# Altium schematic symbol library IoWLabs.SchLib: 46 symbols
Pins are listed as number, name and electrical type; pins without a type are passive.

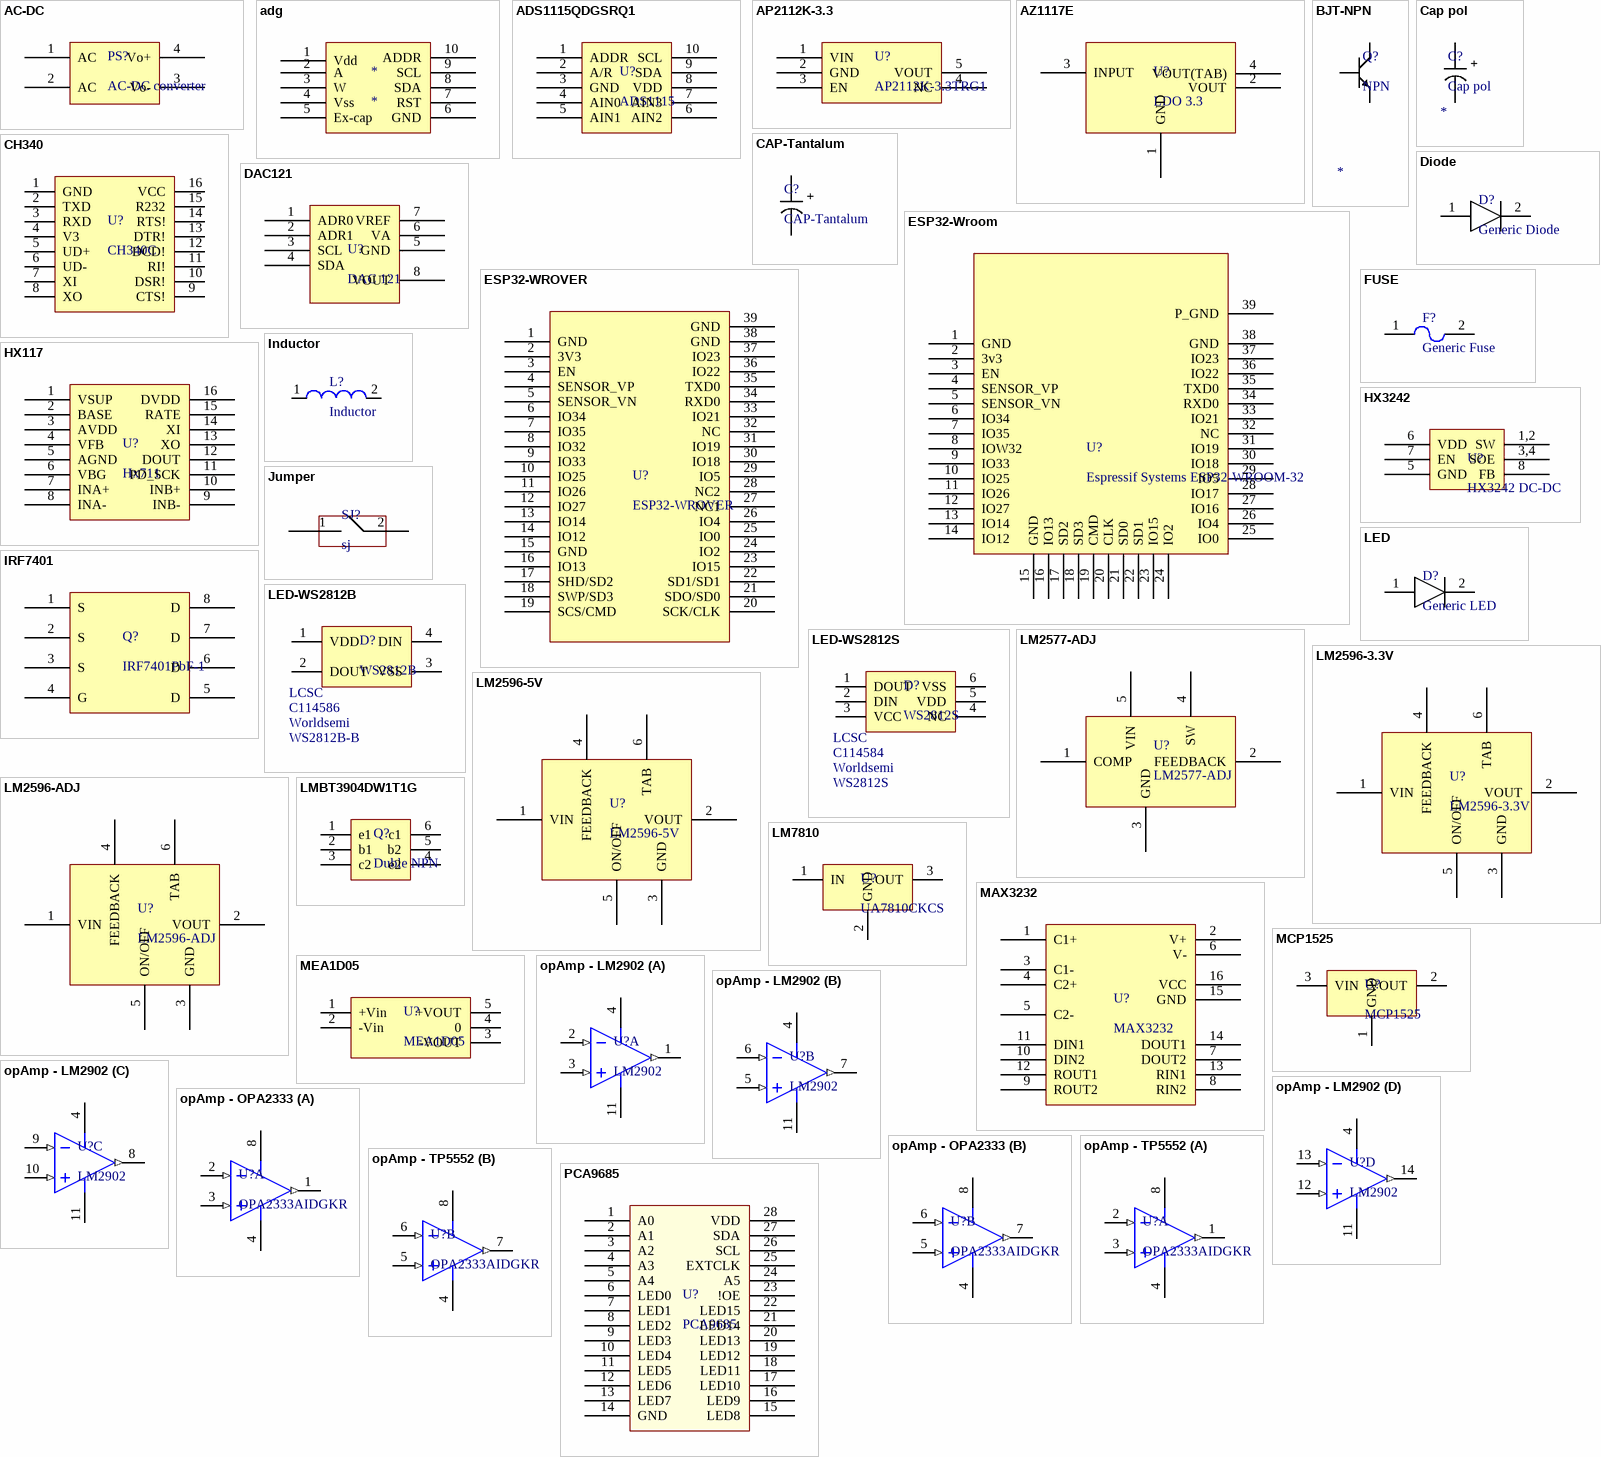
[diagram p0: symbols AC-DC to PCA9685]

## AC-DC
designator PS?, comment AC-DC converter
Generic AC-DC converter; Manufacturer: HI-LINK; Supplier 1: LCSC; Model: *; Current: *; V in: *; Power: *
footprint TH-ACDC (hi link ac dc module)
pins: 1 AC, 2 AC, 3 Vo-, 4 Vo+

## adg
designator *
footprint 10MSOP
pins: 1 Vdd, 2 A, 3 W, 4 Vss, 5 Ex-cap, 6 GND, 7 RST, 8 SDA, 9 SCL, 10 ADDR

## ADS1115QDGSRQ1
designator U?, comment ADS1115
Analog To Digital Converters (ADCs) VSSOP-10 RoHS; Manufacturer Part Number: ADS1115QDGSRQ1; Manufacturer: Texas Instruments; Supplier 1: LCSC; Supplier Part Number 1: C172375; Package: VSSOP-10
footprint VSSOP - 10 (DGSM-10)
pins: 1 ADDR, 2 A/R, 3 GND, 4 AIN0, 5 AIN1, 6 AIN2, 7 AIN3, 8 VDD, 9 SDA, 10 SCL

## AP2112K-3.3
designator U?, comment AP2112K-3.3TRG1
600mA CMOS LDO REGULATOR WITH ENABLE; Manufacture: DIODES; Package: SOT-25-5_L3.0-W1.8-P0.95-LS3.0-BL; Supplier 1: LCSC; Supplier Part Number 1: C51118; Manufacture Part Number: AP2112K-3.3TRG1
footprint SOT25-5
pins: 1 VIN, 2 GND, 3 EN, 4 NC, 5 VOUT

## AZ1117E
designator U?, comment LDO 3.3
Low Dropout Regulators(LDO) Positive Fixed 1.3V @ 1A 13V 3.3V 1A SOT-223 RoHS; Manufacturer: Diodes Incorporated; Manufacturer Part Number: AZ1117EH-3.3TRG1; Supplier 1: LCSC; Supplier Part Number 1: C108494
footprint SOT223
pins: 1 GND, 2 VOUT, 3 INPUT, 4 VOUT(TAB)

## BJT-NPN
designator Q?, comment NPN
Generic bjt npn; Supplier 1: LCSC; Manufacturer Part Number: *; Model: *
footprint SOT-23
pins: 1 b, 2 e, 3 c

## Cap pol
designator C?
Electrolytic Aluminium Capacitor; Manufacturer: *; Manufacturer Part Number: *; Supplier 1: LCSC; Supplier Part Number 1: *; Voltage: *; Package: *; Value: *
footprint CAP _TH_Electrolytic
footprint CAP_SMD_Electrolytic_10x10
footprint CAP_SMD_Electrolytic_13.5x13.5
footprint CAP_SMD_Electrolytic_5X5.4
pins: 1, 2
text: +

## CAP-Tantalum
designator C?
Tantalum Capacitors; Value: 1 uF; Voltage: 16V; Supplier 1: LCSC; Package: *
footprint CAP_SMD_CLAS_A (Tantalum Capacitor 1206)
pins: 1, 2
text: +

## CH340
designator U?, comment CH340C
USB to serial chip CH340 16 version; Manufacturer Part Number: CH340C; Supplier 1: LCSC; Supplier Part Number 1: C84681; Package: SOP-16_L10.0-W3.9-P1.27-LS6.0-BL
footprint SOP-16
pins: 1 GND, 2 TXD, 3 RXD, 4 V3, 5 UD+, 6 UD-, 7 XI, 8 XO, 9 CTS!, 10 DSR!, 11 RI!, 12 DCD!, 13 DTR!, 14 RTS!, 15 R232, 16 VCC

## DAC121
designator U?, comment DAC 121
DAC 12bit
pins: 1 ADR0, 2 ADR1, 3 SCL, 4 SDA, 5 GND, 6 VA, 7 VREF, 8 VOUT

## Diode
designator D?, comment Generic Diode
Generic diode component; Model: *; Supplier 1: LCSC; Supplier Part Number 1: *
footprint SOD-123
pins: 1, 2

## ESP32-Wroom
designator U?, comment Espressif Systems ESP32-WROOM-32
WIFI Modules RoHS; Manufacturer Part Number: ESP32-WROOM-32UC; Supplier 1: LCSC; Supplier Part Number 1: C473014; Manufacturer: Espressif Systems
footprint ESP-WROOM32
pins: 1 GND, 2 3v3, 3 EN, 4 SENSOR_VP, 5 SENSOR_VN, 6 IO34, 7 IO35, 8 IOW32, 9 IO33, 10 IO25, 11 IO26, 12 IO27, 13 IO14, 14 IO12, 15 GND, 16 IO13, 17 SD2, 18 SD3, 19 CMD, 20 CLK, 21 SD0, 22 SD1, 23 IO15, 24 IO2, 25 IO0, 26 IO4, 27 IO16, 28 IO17, 29 IO5, 30 IO18, 31 IO19, 32 NC, 33 IO21, 34 RXD0, 35 TXD0, 36 IO22, 37 IO23, 38 GND, 39 P_GND

## ESP32-WROVER
designator U?
Espressif Systems ESP32-WROVER; Supplier 1: LCSC; Supplier Part Number 1: C129145; Manufacturer: Espressif Systems; Manufacturer Part Number: ESP32-WROVER
footprint ESP-WROVER-32
pins: 1 GND, 2 3V3, 3 EN, 4 SENSOR_VP, 5 SENSOR_VN, 6 IO34, 7 IO35, 8 IO32, 9 IO33, 10 IO25, 11 IO26, 12 IO27, 13 IO14, 14 IO12, 15 GND, 16 IO13, 17 SHD/SD2, 18 SWP/SD3, 19 SCS/CMD, 20 SCK/CLK, 21 SDO/SD0, 22 SD1/SD1, 23 IO15, 24 IO2, 25 IO0, 26 IO4, 27 NC1, 28 NC2, 29 IO5, 30 IO18, 31 IO19, 32 NC, 33 IO21, 34 RXD0, 35 TXD0, 36 IO22, 37 IO23, 38 GND, 39 GND

## FUSE
designator F?, comment Generic Fuse
SMD Fuse; Rated Voltage AC: 250V; Current Rating: 1A; Supplier 1: LCSC
footprint F2410 (Fuse SMD)
footprint F1206
pins: 1, 2

## HX117
designator U?, comment Hx711
24-Bit Analog-to-Digital Converter (ADC) for Weigh Scales; Manufacturer: Avia Semicon (Xiamen); Supplier 1: LCSC; Supplier Part Number 1: C43656; Manufacturer Part Number: HX711
footprint SOP-16
pins: 1 VSUP, 2 BASE, 3 AVDD, 4 VFB, 5 AGND, 6 VBG, 7 INA+, 8 INA-, 9 INB-, 10 INB+, 11 PD_SCK, 12 DOUT, 13 XO, 14 XI, 15 RATE, 16 DVDD

## HX3242
designator U?, comment HX3242 DC-DC
DC-DC Converters Step-Up Adjustable 1 1.6V 2.4V 22V 3A SOIC-8_EP_150mil RoHS; Manufacturer: HEXIN; Manufacturer Part Number: HX3242; Package: SOIC-8_EP_150mil; Supplier 1: LCSC; Supplier Part Number 1: C172357
pins: 1,2 SW, 3,4 SOE, 5 GND, 6 VDD, 7 EN, 8 FB

## Inductor
designator L?
Inductor SMD; Supplier 1: *; Supplier Part Number 1: *; Manufacturer: *; Manufacturer Part Number: *; Package: 0805
footprint 0805
footprint IND-SMD_L12.5-W12.5_SMDRS1275
footprint IND-SMD_L8.0-W8.0
footprint IND-SMD_L12.3-W12.3
footprint IND-SMD_L6.0-W6.0
pins: 1, 2

## IRF7401
designator Q?, comment IRF7401PbF-1
MOSFET N Channel 20V 8.7A 700mV @ 250uA 22mΩ @ 4.1A,4.5V SOIC-8_150mil RoHS; Manufacturer: Infineon Technologies; Manufacturer Part Number: IRF7401TRPBF; Package: SO-8; Supplier 1: LCSC; Supplier Part Number 1: C169092
footprint SOIC8
pins: 1 S, 2 S, 3 S, 4 G, 5 D, 6 D, 7 D, 8 D

## Jumper
designator SJ?, comment sj
solder jumper generic
footprint SJ2
pins: 1, 2

## LED
designator D?, comment Generic LED
Generic LED SMD; Color: Green; Package: 0603; Supplier 1: LCSC; Supplier Part Number 1: C125101
footprint LED0603 (LED 0603)
pins: 1, 2

## LED-WS2812B
designator D?, comment WS2812B  Supplier 1: LCSC  Supplier Part Number 1: C114586  Manufacturer: Worldsemi  Manufacturer Part Number: WS2812B-B
RGB SMART LED 5050 5X5MM SMD
footprint SMD-WS2812B
pins: 1 VDD, 2 DOUT, 3 VSS, 4 DIN

## LED-WS2812S
designator D?, comment WS2812S  Supplier 1: LCSC  Supplier Part Number 1: C114584  Manufacturer: Worldsemi
RGB SMART LED 5050 5X5MM SMD; Manufacturer Part Number: WS2812S
footprint SMD-WS2812S
pins: 1 DOUT, 2 DIN, 3 VCC, 4 NC, 5 VDD, 6 VSS

## LM2577-ADJ
designator U?
Step-Up, Step-Up/Step-Down Positive or Negative Adjustable 1 3A (Switch) 52kHz TO-263-5 DC-DC Converters RoHS; Manufacturer: Texas Instruments; Manufacturer Part Number: LM2577SX-ADJ/NOPB; Package: TO-263-5; Supplier 1: LCSC; Supplier Part Number 1: C17117
pins: 1 COMP, 2 FEEDBACK, 3 GND, 4 SW, 5 VIN

## LM2596-3.3V
designator U?
DC-DC Converters Step-Down Fixed 1 4.5V 40V 3.3V 3A TO-263-5 RoHS; Manufacturer: Texas Instruments; Manufacturer Part Number: LM2596SX-3.3/NOPB; Package: TO-263-5; Supplier 1: LCSC; Supplier Part Number 1: C7929
pins: 1 VIN, 2 VOUT, 3 GND, 4 FEEDBACK, 5 ON/OFF, 6 TAB

## LM2596-5V
designator U?
Step-Down Positive Fixed 1 3A 150kHz TO-263-5 DC-DC Converters RoHS; Manufacturer: HTC Korea TAEJIN Tech; Manufacturer Part Number: LM2596R-5.0; Package: TO-263-5; Supplier 1: LCSC; Supplier Part Number 1: C77782
footprint TO-263-5
pins: 1 VIN, 2 VOUT, 3 GND, 4 FEEDBACK, 5 ON/OFF, 6 TAB

## LM2596-ADJ
designator U?
DC-DC Converters Step-Down Adjustable 1 4.5V 40V 1.2V 37V 3A TO-263-5 RoHS; Manufacturer: Texas Instruments; Manufacturer Part Number: LM2596SX-ADJ/NOPB; Package: TO-263-5; Supplier 1: LCSC; Supplier Part Number 1: C29781
footprint TO-263-5
pins: 1 VIN, 2 VOUT, 3 GND, 4 FEEDBACK, 5 ON/OFF, 6 TAB

## LM7810
designator U?, comment UA7810CKCS
Linear Voltage Regulators 10V TO-220(TO-220-3) RoHS; Manufacturer: Texas Instruments; Supplier 1: LCSC; Supplier Part Number 1: C95077; Vout: 10V
footprint TO-220 (Generic TO-220)
pins: 1 IN, 2 GND, 3 OUT

## LMBT3904DW1T1G
designator Q?, comment Duble NPN
2 NPN(Double) 200mA 40V 150mW SOT-363 Transistors (NPN/PNP) RoHS; Manufacturer: Leshan Radio; Manufacturer Part Number: LMBT3904DW1T1G; Supplier Part Number 1: C131781; Supplier 1: LCSC; Package: SOT-363
footprint SOT-363
pins: 1 e1, 2 b1, 3 c2, 4 e2, 5 b2, 6 c1

## MAX3232
designator U?
Transceiver RS232 2/2 250kbps SOP-16_150mil RS232 ICs; Manufacturer: Texas Instruments; Manufacturer Part Number: MAX3232CDR; Supplier 1: LCSC; Supplier Part Number 1: C45843
footprint SOP-16
pins: 1 C1+, 2 V+, 3 C1-, 4 C2+, 5 C2-, 6 V-, 7 DOUT2, 8 RIN2, 9 ROUT2, 10 DIN2, 11 DIN1, 12 ROUT1, 13 RIN1, 14 DOUT1, 15 GND, 16 VCC

## MCP1525
designator U?
2.5V and 4.096V Voltage References; Manufacturer: Microchip; Supplier 1: LCSC; Supplier Part Number 1: *; Package: *; Manufacturer Part Number: *
footprint TO-92
pins: 1 GND, 2 VOUT, 3 VIN

## MEA1D05
designator U?
footprint MEA1D05
pins: 1 +Vin, 2 -Vin, 3 -VOUT, 4 0, 5 +VOUT

## opAmp - LM2902
designator U?, comment LM2902
General Purpose Amplifiers 4; Manufacturer: Texas instruments; Manufacturer Part Number: LM2902DR; Supplier 1: LCSC; Supplier Part Number 1: C350545; Model: *
footprint SOIC14 (SOIC14 ( D ))
footprint DIP 14 (Generic DIP 14 th)
part A pins: 1 OUT A (out), 2 -IN A (in), 3 +IN A (in), 4, 11 -V (power)
part B pins: 4 +V, 5 +IN A (in), 6 -IN A (in), 7 OUT A (out), 11 -V (power)
part C pins: 4 +V, 8 OUT A (out), 9 -IN A (in), 10 +IN A (in), 11 -V (power)
part D pins: 4 +V, 11 -V (power), 12 +IN A (in), 13 -IN A (in), 14 OUT A (out)

## opAmp - OPA2333
designator U?, comment OPA2333AIDGKR
Precision OpAmps Zero-Drift 2 1.8V ~ 5.5V, ±0.9V ~ 2.75V 350kHz 0.16 V/us MSOP-8 RoHS; Manufacturer: Texas Instruments; Supplier 1: LCSC; Supplier Part Number 1: C19608; Manufacturer Part Number: OPA2333AIDGKR
footprint MSOP-8
part A pins: 1 OUT A (out), 2 -IN A (in), 3 +IN A (in), 4 -V (power), 8 +V (power)
part B pins: 4 -V (power), 5 +IN A (in), 6 -IN A (in), 7 OUT A (out), 8 +V (power)

## opAmp - TP5552
designator U?, comment OPA2333AIDGKR
Zero-Drift 2 1.8V ~ 5.5V 590uA 3.5MHz 2.5 V/us MSOP-8 Low Noise OpAmps; Manufacturer: 3PEAK; Manufacturer Part Number: TP5552-VR; Supplier 1: LCSC; Supplier Part Number 1: C248604
footprint MSOP-8
part A pins: 1 OUT A (out), 2 -IN A (in), 3 +IN A (in), 4 -V (power), 8 +V (power)
part B pins: 4 -V (power), 5 +IN A (in), 6 -IN A (in), 7 OUT A (out), 8 +V (power)

## PCA9685
designator U?
LED Drivers,16CH, I2C, TSSOP-28; Package: TSSOP-28; Supplier 1: LCSC; Supplier Part Number 1: C92206
footprint SSOP-28_L (SOP, 28-Leads, Body 10.2x5.3mm, Pitch 0.65mm, IPC High Density)
pins: 1 A0, 2 A1, 3 A2, 4 A3, 5 A4, 6 LED0, 7 LED1, 8 LED2, 9 LED3, 10 LED4, 11 LED5, 12 LED6, 13 LED7, 14 GND, 15 LED8, 16 LED9, 17 LED10, 18 LED11, 19 LED12, 20 LED13, 21 LED14, 22 LED15, 23 !OE, 24 A5, 25 EXTCLK, 26 SCL, 27 SDA, 28 VDD

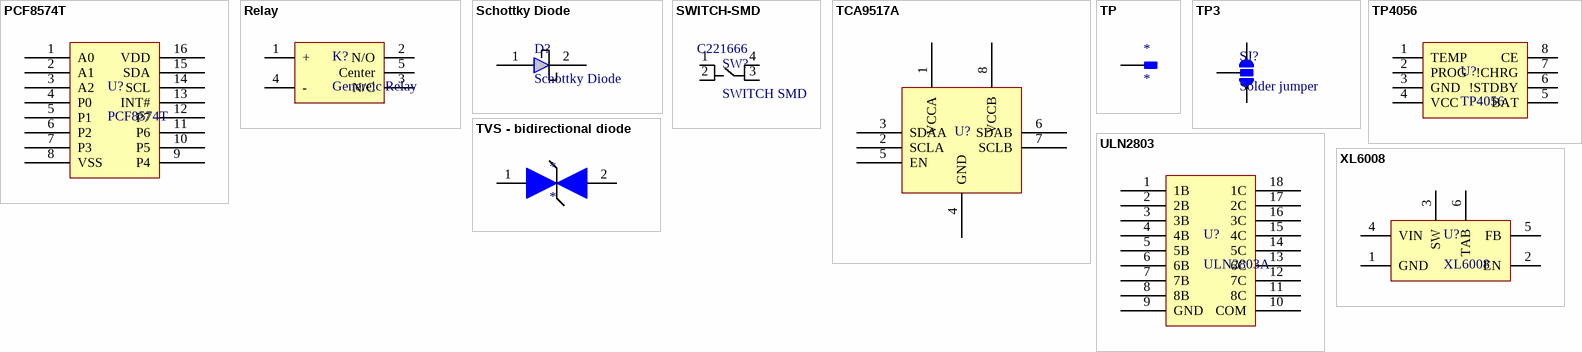
[diagram p1: symbols PCF8574T to XL6008]

## PCF8574T
designator U?
i2c GPIO EXPANDER; Manufacturer: NXP Semicon; Manufacturer Part Number: PCF8574T/3,518; Supplier 1: LCSC; Supplier Part Number 1: C7605; Package: SOIC-16
footprint SO16
pins: 1 A0, 2 A1, 3 A2, 4 P0, 5 P1, 6 P2, 7 P3, 8 VSS, 9 P4, 10 P5, 11 P6, 12 P7, 13 INT#, 14 SCL, 15 SDA, 16 VDD

## Relay
designator K?, comment Genereic Relay
Generic Relay; Model: *; Supplier 1: LCSC; Supplier Part Number 1: *
footprint Relay - SRD-05VDC-SL-C (SRD-05VDC-SL-C, Through Hole)
pins: 1 +, 2 N/O, 3 N/C, 4 -, 5 Center

## Schottky Diode
designator D?
Schottky Diodes; Supplier 1: LCSC; Reverse voltage: *
footprint SMB_L4.6-W3.6-LS5.3-RD
pins: 1 +, 2 -

## SWITCH-SMD
designator SW?, comment SWITCH SMD  Supplier Part Number 2: C221666
SPST-NO 50mA @ 12VDC Top Actuated Standard SMD Tactile Switches RoHS; Manufacturer: Korean Hroparts Elec; Manufacturer Part Number: K2-1809SN-D4DW-06; Supplier 1: LCSC; Supplier Part Number 1: C128941; Type: SPST-NO; Supplier 2: LCSC
footprint SMD-SWITCH (SWHITCH SMD SPST)
pins: 1, 2, 3, 4

## TCA9517A
designator U?
VSSOP-8_3x3x065P Level Translators, Shifters RoHS; Manufacturer: Texas Instruments; Manufacturer Part Number: TCA9517ADGKR; Supplier 1: LCSC; Supplier Part Number 1: C201698
footprint VSSOP - 8
pins: 1 VCCA, 2 SCLA, 3 SDAA, 4 GND, 5 EN, 6 SDAB, 7 SCLB, 8 VCCB

## TP
designator *
Solder test point
footprint TP
pins: 1

## TP3
designator SJ?, comment Solder jumper
solder jumper 3 option
footprint SJ3-T (Solder Jumper 3 pos)
footprint SJ3 (Solder Jumper 3 pos)
pins: 1, 2, 3

## TP4056
designator U?
Battery Charger; Supplier 1: LCSC; Supplier Part Number 1: C
footprint ESOP-8
pins: 1 TEMP, 2 PROG, 3 GND, 4 VCC, 5 BAT, 6 !STDBY, 7 !CHRG, 8 CE

## TVS - bidirectional diode
designator *
pins: 1, 2

## ULN2803
designator U?, comment ULN2803A
Darlington transistor array driver SOIC-18_300mi; Manufacturer: Texas instrument; Manufacturer Part Number: ULN2803ADWR; Supplier 1: LCSC; Supplier Part Number 1: C9683; Package: SOIC-18_300mil
footprint SOIC18
pins: 1 1B, 2 2B, 3 3B, 4 4B, 5 5B, 6 6B, 7 7B, 8 8B, 9 GND, 10 COM, 11 8C, 12 7C, 13 6C, 14 5C, 15 4C, 16 3C, 17 2C, 18 1C

## XL6008
designator U?
DC-DC Converters Step-Up, Step-Up/Step-Down Adjustable 1 3.6V 32V 3A TO-252-5 RoHS; Manufacturer: XLSEMI; Manufacturer Part Number: XL6008E1; Package: TO-252-5; Supplier 1: LCSC; Supplier Part Number 1: C73012
footprint TO-252-5
pins: 1 GND, 2 EN, 3 SW, 4 VIN, 5 FB, 6 TAB